# EAGLE library part STM32F103R (library MCU)
The STM32F103x4 and STM32F103x6 performance line family incorporates the highperformance ARM Cortex™-M3 32-bit RISC core operating at a 72 MHz frequency, highspeed embedded memories (Flash memory up to 32 Kbytes and SRAM up to 6 Kbytes), and an extensive range of enhanced I/Os and peripherals connected to two APB buses. All devices offer two 12-bit ADCs, three general purpose 16-bit timers plus one PWM timer, as well as standard and advanced communication interfaces: up to two I2Cs and SPIs, three USARTs, an USB and a CAN. The STM32F103xx low-density performance line family operates from a 2.0 to 3.6 V power supply. It is available in both the –40 to +85 °C temperature range and the –40 to +105 °C extended temperature range. A comprehensive set of power-saving mode allows the design of low-power applications. The STM32F103xx low-density performance line family includes devices in four different package types: from 36 pins to 64 pins. Depending on the device chosen, different sets of peripherals are included, the description below gives an overview of the complete range of peripherals proposed in this family. These features make the STM32F103xx low-density performance line microcontroller family suitable for a wide range of applications such as motor drives, application control, medical and handheld equipment, PC and gaming peripherals, GPS platforms, industrial applications, PLCs, inverters, printers, scanners, alarm systems, video intercoms, and HVACs.
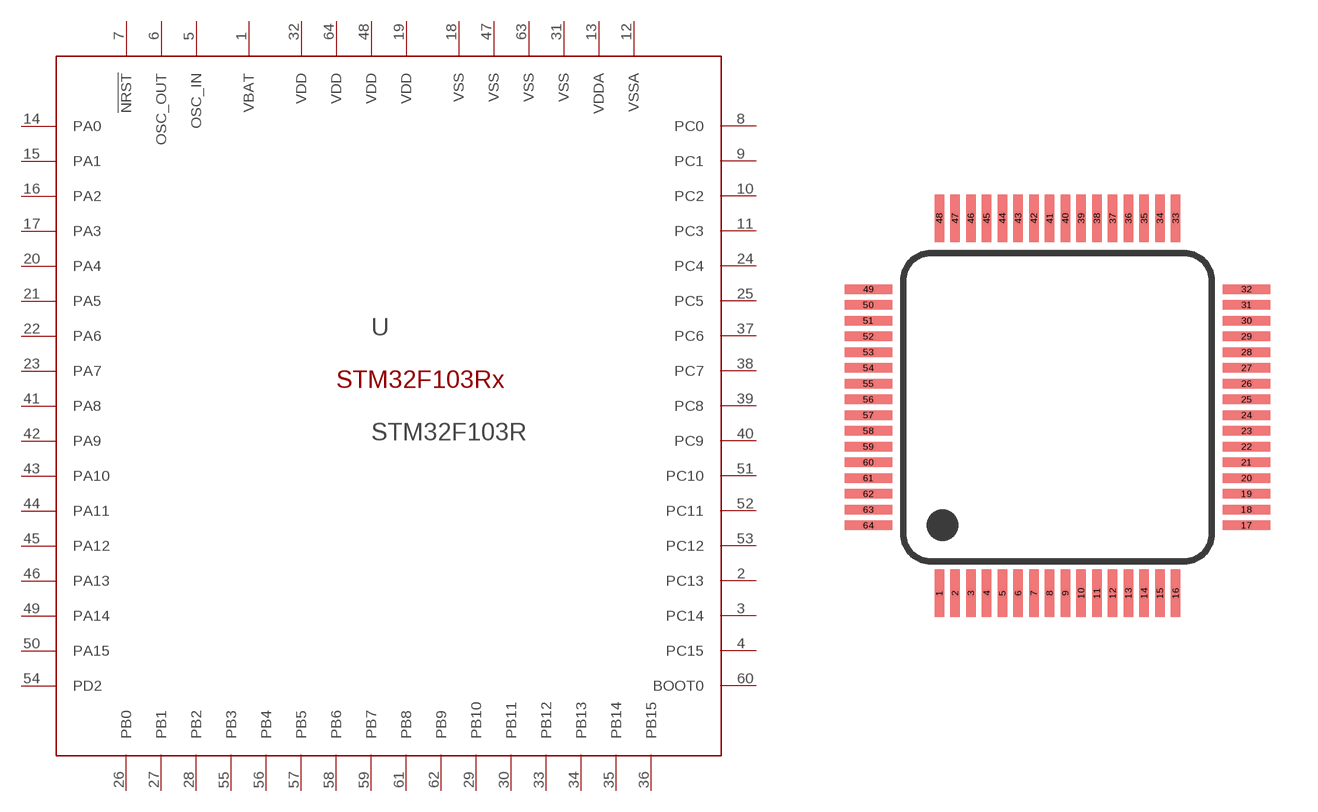
[diagram p2: symbol with the pads of LQFP64; footprint LQFP64]

Designator prefix U

## STM32F103RXT6  [LQFP64]
1  VBAT  pwr
2  PC13
3  PC14
4  PC15
5  OSC_IN  in
6  OSC_OUT  out
7  !NRST
8  PC0
9  PC1
10  PC2
11  PC3
12  VSSA  pwr
13  VDDA  pwr
14  PA0
15  PA1
16  PA2
17  PA3
18  VSS  pwr
19  VDD  pwr
20  PA4
21  PA5
22  PA6
23  PA7
24  PC4
25  PC5
26  PB0
27  PB1
28  PB2
29  PB10
30  PB11
31  VSS  pwr
32  VDD  pwr
33  PB12
34  PB13
35  PB14
36  PB15
37  PC6
38  PC7
39  PC8
40  PC9
41  PA8
42  PA9
43  PA10
44  PA11
45  PA12
46  PA13
47  VSS  pwr
48  VDD  pwr
49  PA14
50  PA15
51  PC10
52  PC11
53  PC12
54  PD2
55  PB3
56  PB4
57  PB5
58  PB6
59  PB7
60  BOOT0
61  PB8
62  PB9
63  VSS  pwr
64  VDD  pwr

## Footprint LQFP64 (pad centres in mm)
smd 0.3 x 1.5: 1 0,0; 2 0.5,0; 3 1,0; 4 1.5,0; 5 2,0; 6 2.5,0; 7 3,0; 8 3.5,0; 9 4,0; 10 4.5,0; 11 5,0; 12 5.5,0; 13 6,0; 14 6.5,0; 15 7,0; 16 7.5,0; 33 7.5,11.9; 34 7,11.9; 35 6.5,11.9; 36 6,11.9; 37 5.5,11.9; 38 5,11.9; 39 4.5,11.9; 40 4,11.9; 41 3.5,11.9; 42 3,11.9; 43 2.5,11.9; 44 2,11.9; 45 1.5,11.9; 46 1,11.9; 47 0.5,11.9; 48 0,11.9
smd 1.5 x 0.3: 17 9.75,2.15; 18 9.75,2.65; 19 9.75,3.15; 20 9.75,3.65; 21 9.75,4.15; 22 9.75,4.65; 23 9.75,5.15; 24 9.75,5.65; 25 9.75,6.15; 26 9.75,6.65; 27 9.75,7.15; 28 9.75,7.65; 29 9.75,8.15; 30 9.75,8.65; 31 9.75,9.15; 32 9.75,9.65; 49 -2.25,9.65; 50 -2.25,9.15; 51 -2.25,8.65; 52 -2.25,8.15; 53 -2.25,7.65; 54 -2.25,7.15; 55 -2.25,6.65; 56 -2.25,6.15; 57 -2.25,5.65; 58 -2.25,5.15; 59 -2.25,4.65; 60 -2.25,4.15; 61 -2.25,3.65; 62 -2.25,3.15; 63 -2.25,2.65; 64 -2.25,2.15